# Altium footprint library TSSOP16_6.4X5X11.PcbLib: 1 footprints
Each footprint in its own frame and in the unit in brackets; x right, y up, seen from the top. Pads: shape width x height; smd on the part's side, far side on the other; paste and mask are expansions set on the pad; w line width, h text height; cw(c..) or ccw(c..) is an arc to the next point about the centre after c.
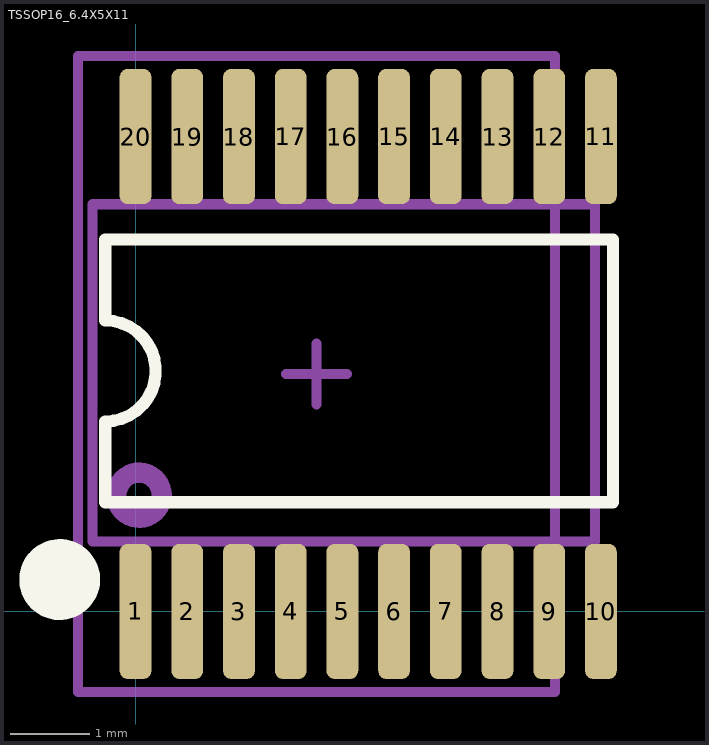
[diagram p0: the footprint, top view; thin cyan lines are the x and y axes]

## TSSOP16_6.4X5X11 [mm]
pads (20):
  rrect50% 0.4x1.7 smd paste+0 mask+0.05: 1(0,0) 2(0.65,0) 3(1.3,0) 4(1.95,0) 5(2.6,0) 6(3.25,0) 7(3.9,0) 8(4.55,0) 9(5.2,0) 10(5.85,0) 11(5.85,5.969) 12(5.2,5.969) 13(4.55,5.969) 14(3.9,5.969) 15(3.25,5.969) 16(2.6,5.969) 17(1.95,5.969) 18(1.3,5.969) 19(0.65,5.969) 20(0,5.969)
Top Overlay:
  circle w0.508: c-0.954,0.4 r0.254
  lines w0.152: -0.381,1.372 -0.381,2.388 ccw(c-0.381,3.023) -0.381,3.658 -0.381,4.674 6,4.674 6,1.372 -0.381,1.372
Top Assembly:
  circle w0.254: c0.045,1.46 r0.284
  lines w0.127: 1.894,2.984 2.656,2.984 ; 2.275,2.603 2.275,3.365 ; -0.539,0.876 -0.539,5.118 -0.514,5.118 5.775,5.118 5.775,0.876 -0.539,0.876
Top Courtyard:
  lines w0.127: -0.725,-1.016 -0.725,6.984 5.275,6.984 5.275,-1.016 -0.725,-1.016
3D body "TSSOP-20.stp": height 0.65, standoff -0.67, extent -0.321,-0.215 6.179,6.2